# EAGLE library part POLOLU-ALLEGRO (library teensylu)
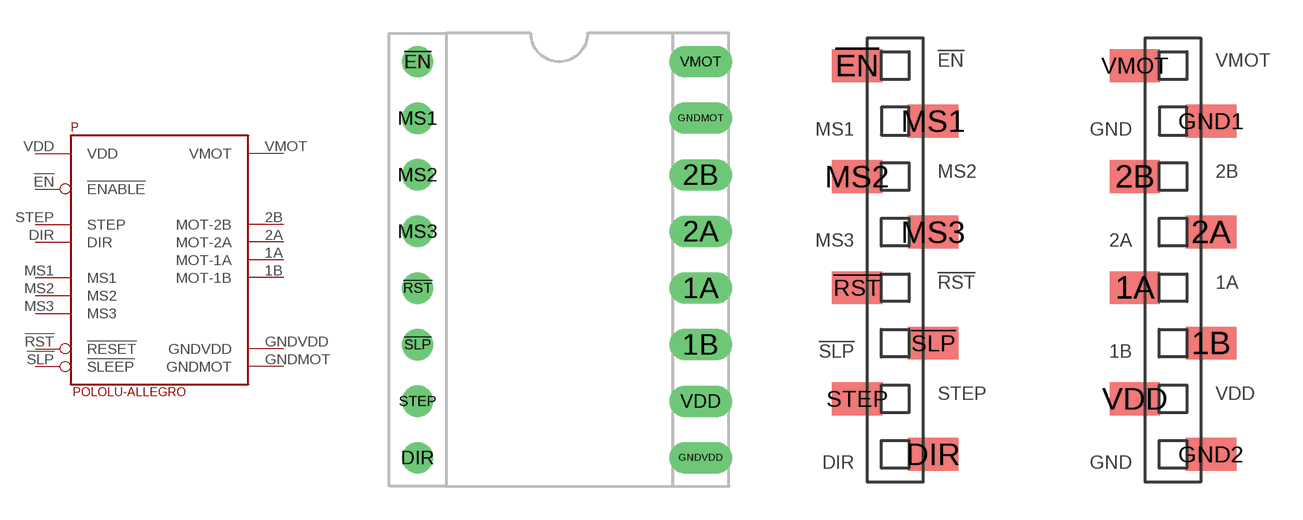
[diagram p5: symbol with the pads of POLOLU-STEPPER-PTH; footprints POLOLU-STEPPER-PTH, POLOLU-ALLEGRO-SMT]

Designator prefix P

## POLOLU-ALLEGRO  [POLOLU-STEPPER-PTH]
1A  MOT-1A  pwr
1B  MOT-1B  pwr
2A  MOT-2A  pwr
2B  MOT-2B  pwr
!EN  !ENABLE  in
!RST  !RESET  in
!SLP  !SLEEP  in
DIR  DIR
GNDMOT  GNDMOT  pwr
GNDVDD  GNDVDD  pwr
MS1  MS1  in
MS2  MS2  in
MS3  MS3  in
STEP  STEP
VDD  VDD  pwr
VMOT  VMOT  pwr

## POLOLU-ALLEGROS  [POLOLU-ALLEGRO-SMT]
1A  MOT-1A  pwr
1B  MOT-1B  pwr
2A  MOT-2A  pwr
2B  MOT-2B  pwr
!EN  !ENABLE  in
!RST  !RESET  in
!SLP  !SLEEP  in
DIR  DIR
GND1  GNDMOT  pwr
GND2  GNDVDD  pwr
MS1  MS1  in
MS2  MS2  in
MS3  MS3  in
STEP  STEP
VDD  VDD  pwr
VMOT  VMOT  pwr

## Footprint POLOLU-STEPPER-PTH (pad centres in mm)
drill 0.9 long: 1A 6.35,-1.27; 1B 6.35,-3.81; 2A 6.35,1.27; 2B 6.35,3.81; GNDMOT 6.35,6.35; GNDVDD 6.35,-8.89; VDD 6.35,-6.35; VMOT 6.35,8.89
drill 0.9: !EN -6.35,8.89; !RST -6.35,-1.27; !SLP -6.35,-3.81; DIR -6.35,-8.89; MS1 -6.35,6.35; MS2 -6.35,3.81; MS3 -6.35,1.27; STEP -6.35,-6.35

## Footprint POLOLU-ALLEGRO-SMT (pad centres in mm)
smd 2.3 x 1.5: 1A 4.575,-1.2; 1B 8.055,-3.74; 2A 8.055,1.34; 2B 4.575,3.88; !EN -8.125,8.96; !RST -8.125,-1.2; !SLP -4.645,-3.74; DIR -4.645,-8.82; GND1 8.055,6.42; GND2 8.055,-8.82; MS1 -4.645,6.42; MS2 -8.125,3.88; MS3 -4.645,1.34; STEP -8.125,-6.28; VDD 4.575,-6.28; VMOT 4.575,8.96